# EAGLE library part FLASH-1MX16-TSOP (library xess)
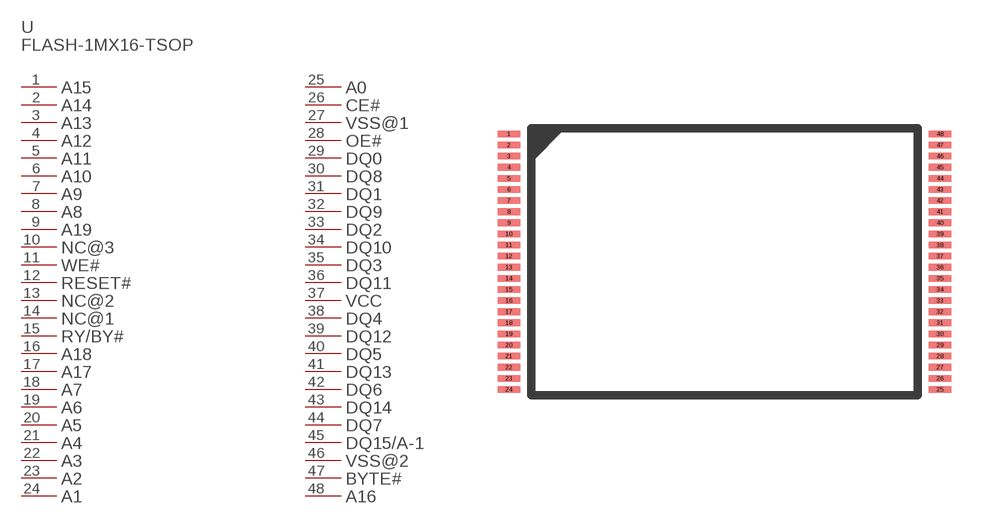
[diagram p95: symbol with the pads of FLASH-1MX16-TSOP; footprint FLASH-1MX16-TSOP]

Designator prefix U; gates PART_VALUE=PART_VALUE-FLASH-1MX16-TSOP A15=PL-FLASH-1MX16-TSOP A14=PL-FLASH-1MX16-TSOP A13=PL-FLASH-1MX16-TSOP A12=PL-FLASH-1MX16-TSOP A11=PL-FLASH-1MX16-TSOP A10=PL-FLASH-1MX16-TSOP A9=PL-FLASH-1MX16-TSOP A8=PL-FLASH-1MX16-TSOP A19=PL-FLASH-1MX16-TSOP NC@3=PL-FLASH-1MX16-TSOP WE#=PL-FLASH-1MX16-TSOP RESET#=PL-FLASH-1MX16-TSOP NC@2=PL-FLASH-1MX16-TSOP NC@1=PL-FLASH-1MX16-TSOP RY/BY#=PL-FLASH-1MX16-TSOP A18=PL-FLASH-1MX16-TSOP A17=PL-FLASH-1MX16-TSOP A7=PL-FLASH-1MX16-TSOP A6=PL-FLASH-1MX16-TSOP A5=PL-FLASH-1MX16-TSOP A4=PL-FLASH-1MX16-TSOP A3=PL-FLASH-1MX16-TSOP A2=PL-FLASH-1MX16-TSOP A1=PL-FLASH-1MX16-TSOP A0=PL-FLASH-1MX16-TSOP CE#=PL-FLASH-1MX16-TSOP VSS@1=PL-FLASH-1MX16-TSOP OE#=PL-FLASH-1MX16-TSOP DQ0=PL-FLASH-1MX16-TSOP DQ8=PL-FLASH-1MX16-TSOP DQ1=PL-FLASH-1MX16-TSOP DQ9=PL-FLASH-1MX16-TSOP DQ2=PL-FLASH-1MX16-TSOP DQ10=PL-FLASH-1MX16-TSOP DQ3=PL-FLASH-1MX16-TSOP DQ11=PL-FLASH-1MX16-TSOP VCC=PL-FLASH-1MX16-TSOP DQ4=PL-FLASH-1MX16-TSOP DQ12=PL-FLASH-1MX16-TSOP DQ5=PL-FLASH-1MX16-TSOP DQ13=PL-FLASH-1MX16-TSOP DQ6=PL-FLASH-1MX16-TSOP DQ14=PL-FLASH-1MX16-TSOP DQ7=PL-FLASH-1MX16-TSOP DQ15/A-1=PL-FLASH-1MX16-TSOP VSS@2=PL-FLASH-1MX16-TSOP BYTE#=PL-FLASH-1MX16-TSOP A16=PL-FLASH-1MX16-TSOP

## FLASH-1MX16-TSOP  [FLASH-1MX16-TSOP]
1  A15:P$1
2  A14:P$1
3  A13:P$1
4  A12:P$1
5  A11:P$1
6  A10:P$1
7  A9:P$1
8  A8:P$1
9  A19:P$1
10  NC@3:P$1
11  WE#:P$1
12  RESET#:P$1
13  NC@2:P$1
14  NC@1:P$1
15  RY/BY#:P$1
16  A18:P$1
17  A17:P$1
18  A7:P$1
19  A6:P$1
20  A5:P$1
21  A4:P$1
22  A3:P$1
23  A2:P$1
24  A1:P$1
25  A0:P$1
26  CE#:P$1
27  VSS@1:P$1
28  OE#:P$1
29  DQ0:P$1
30  DQ8:P$1
31  DQ1:P$1
32  DQ9:P$1
33  DQ2:P$1
34  DQ10:P$1
35  DQ3:P$1
36  DQ11:P$1
37  VCC:P$1
38  DQ4:P$1
39  DQ12:P$1
40  DQ5:P$1
41  DQ13:P$1
42  DQ6:P$1
43  DQ14:P$1
44  DQ7:P$1
45  DQ15/A-1:P$1
46  VSS@2:P$1
47  BYTE#:P$1
48  A16:P$1

## Footprint FLASH-1MX16-TSOP (pad centres in mm)
smd 1 x 0.3: 1 0,0; 2 0,-0.5; 3 0,-1; 4 0,-1.5; 5 0,-2; 6 0,-2.5; 7 0,-3; 8 0,-3.5; 9 0,-4; 10 0,-4.5; 11 0,-5; 12 0,-5.5; 13 0,-6; 14 0,-6.5; 15 0,-7; 16 0,-7.5; 17 0,-8; 18 0,-8.5; 19 0,-9; 20 0,-9.5; 21 0,-10; 22 0,-10.5; 23 0,-11; 24 0,-11.5; 25 19.4,-11.5; 26 19.4,-11; 27 19.4,-10.5; 28 19.4,-10; 29 19.4,-9.5; 30 19.4,-9; 31 19.4,-8.5; 32 19.4,-8; 33 19.4,-7.5; 34 19.4,-7; 35 19.4,-6.5; 36 19.4,-6; 37 19.4,-5.5; 38 19.4,-5; 39 19.4,-4.5; 40 19.4,-4; 41 19.4,-3.5; 42 19.4,-3; 43 19.4,-2.5; 44 19.4,-2; 45 19.4,-1.5; 46 19.4,-1; 47 19.4,-0.5; 48 19.4,0